# Altium footprint library Connector_PinSocket_1.27mm.PcbLib: 246 footprints (part 6 of 16)
Each footprint in its own frame and in the unit in brackets; x right, y up, seen from the top. Pads: shape width x height; smd on the part's side, far side on the other; paste and mask are expansions set on the pad; w line width, h text height; cw(c..) or ccw(c..) is an arc to the next point about the centre after c.
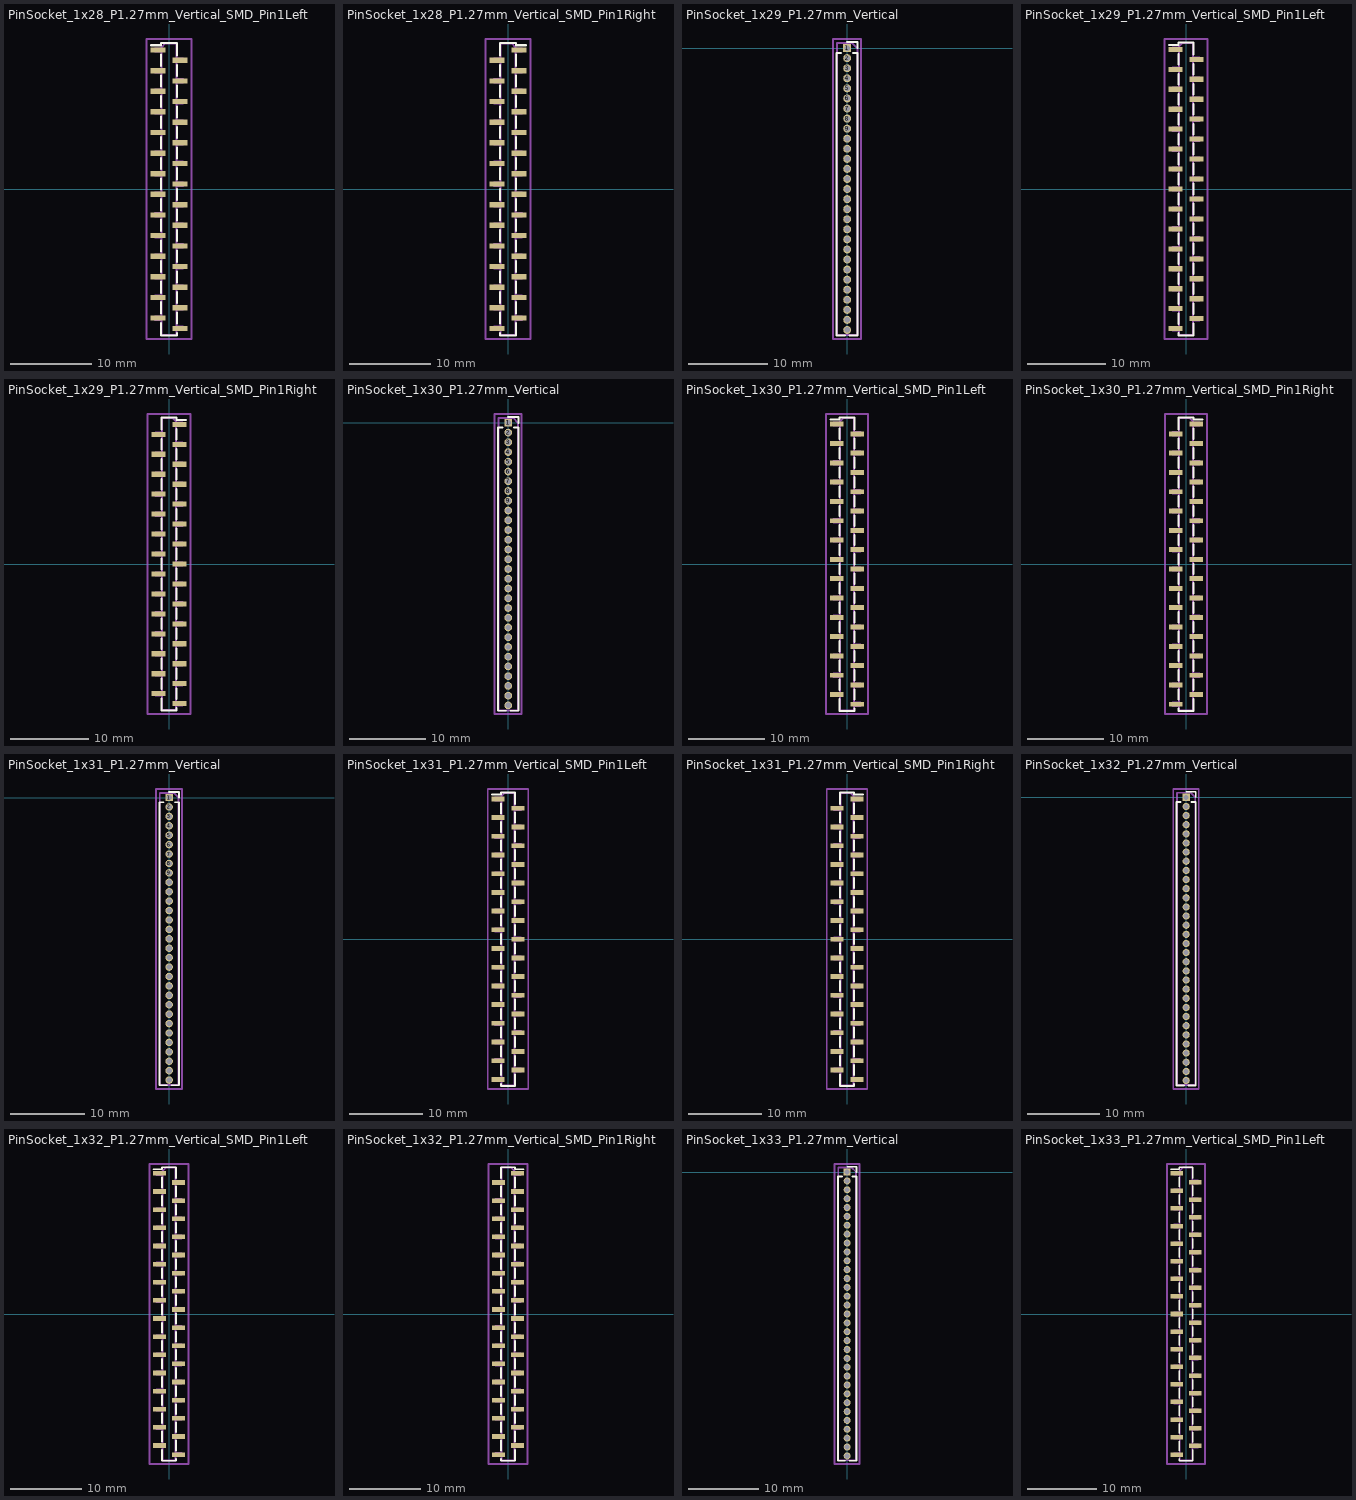
[diagram p5: the footprints below, top view; thin cyan lines are the x and y axes]

## PinSocket_1x28_P1.27mm_Vertical_SMD_Pin1Left [mm]
pads (28):
  rect 1.8x0.65 smd: 1(-1.35,17.145) 2(1.35,15.875) 3(-1.35,14.605) 4(1.35,13.335) 5(-1.35,12.065) 6(1.35,10.795) 7(-1.35,9.525) 8(1.35,8.255) 9(-1.35,6.985) 10(1.35,5.715) 11(-1.35,4.445) 12(1.35,3.175) 13(-1.35,1.905) 14(1.35,0.635) 15(-1.35,-0.635) 16(1.35,-1.905) 17(-1.35,-3.175) 18(1.35,-4.445) 19(-1.35,-5.715) 20(1.35,-6.985) 21(-1.35,-8.255) 22(1.35,-9.525) 23(-1.35,-10.795) 24(1.35,-12.065) 25(-1.35,-13.335) 26(1.35,-14.605) 27(-1.35,-15.875) 28(1.35,-17.145)
F.SilkS:
  lines w0.254: -2.19,17.73 -0.96,17.73 -0.96,18.015 0.96,18.015 0.96,16.46 ; -0.96,-16.46 -0.96,-18.015 0.96,-18.015 0.96,-17.73 ; -0.96,-15.29 -0.96,-13.92 ; -0.96,-12.75 -0.96,-11.38 ; -0.96,-10.21 -0.96,-8.84 ; -0.96,-7.67 -0.96,-6.3 ; -0.96,-5.13 -0.96,-3.76 ; -0.96,-2.59 -0.96,-1.22 ; -0.96,-0.05 -0.96,1.32 ; -0.96,2.49 -0.96,3.86 ; -0.96,5.03 -0.96,6.4 ; -0.96,7.57 -0.96,8.94 ; -0.96,10.11 -0.96,11.48 ; -0.96,12.65 -0.96,14.02 ; -0.96,15.19 -0.96,16.56 ; 0.96,-16.56 0.96,-15.19 ; 0.96,-14.02 0.96,-12.65 ; 0.96,-11.48 0.96,-10.11 ; 0.96,-8.94 0.96,-7.57 ; 0.96,-6.4 0.96,-5.03 ; 0.96,-3.86 0.96,-2.49 ; 0.96,-1.32 0.96,0.05 ; 0.96,1.22 0.96,2.59 ; 0.96,3.76 0.96,5.13 ; 0.96,6.3 0.96,7.67 ; 0.96,8.84 0.96,10.21 ; 0.96,11.38 0.96,12.75 ; 0.96,13.92 0.96,15.29
Top Assembly:
  lines w0.254: -0.9,-16.085 -1.75,-16.085 -1.75,-15.665 -0.9,-15.665 ; -0.9,-13.545 -1.75,-13.545 -1.75,-13.125 -0.9,-13.125 ; -0.9,-11.005 -1.75,-11.005 -1.75,-10.585 -0.9,-10.585 ; -0.9,-8.465 -1.75,-8.465 -1.75,-8.045 -0.9,-8.045 ; -0.9,-5.925 -1.75,-5.925 -1.75,-5.505 -0.9,-5.505 ; -0.9,-3.385 -1.75,-3.385 -1.75,-2.965 -0.9,-2.965 ; -0.9,-0.845 -1.75,-0.845 -1.75,-0.425 -0.9,-0.425 ; -0.9,1.695 -1.75,1.695 -1.75,2.115 -0.9,2.115 ; -0.9,4.235 -1.75,4.235 -1.75,4.655 -0.9,4.655 ; -0.9,6.775 -1.75,6.775 -1.75,7.195 -0.9,7.195 ; -0.9,9.315 -1.75,9.315 -1.75,9.735 -0.9,9.735 ; -0.9,11.855 -1.75,11.855 -1.75,12.275 -0.9,12.275 ; -0.9,14.395 -1.75,14.395 -1.75,14.815 -0.9,14.815 ; -0.9,16.935 -1.75,16.935 -1.75,17.355 -0.9,17.355 ; 0.9,-17.355 1.75,-17.355 1.75,-16.935 0.9,-16.935 ; 0.9,-14.815 1.75,-14.815 1.75,-14.395 0.9,-14.395 ; 0.9,-12.275 1.75,-12.275 1.75,-11.855 0.9,-11.855 ; 0.9,-9.735 1.75,-9.735 1.75,-9.315 0.9,-9.315 ; 0.9,-7.195 1.75,-7.195 1.75,-6.775 0.9,-6.775 ; 0.9,-4.655 1.75,-4.655 1.75,-4.235 0.9,-4.235 ; 0.9,-2.115 1.75,-2.115 1.75,-1.695 0.9,-1.695 ; 0.9,0.425 1.75,0.425 1.75,0.845 0.9,0.845 ; 0.9,2.965 1.75,2.965 1.75,3.385 0.9,3.385 ; 0.9,5.505 1.75,5.505 1.75,5.925 0.9,5.925 ; 0.9,8.045 1.75,8.045 1.75,8.465 0.9,8.465 ; 0.9,10.585 1.75,10.585 1.75,11.005 0.9,11.005 ; 0.9,13.125 1.75,13.125 1.75,13.545 0.9,13.545 ; 0.9,15.665 1.75,15.665 1.75,16.085 0.9,16.085 ; -0.9,-17.955 0.9,-17.955 0.9,17.955 -0.45,17.955 -0.9,17.505 -0.9,-17.955
  text "'.Designator'" at 0.84,-4.047 h1
Top Courtyard:
  lines w0.254: -2.75,-18.45 2.75,-18.45 2.75,18.5 -2.75,18.5 -2.75,-18.45
Top Designator:
  text ".Designator" at -7.618,-0.483 h1.52

## PinSocket_1x28_P1.27mm_Vertical_SMD_Pin1Right [mm]
pads (28):
  rect 1.8x0.65 smd: 1(1.35,17.145) 2(-1.35,15.875) 3(1.35,14.605) 4(-1.35,13.335) 5(1.35,12.065) 6(-1.35,10.795) 7(1.35,9.525) 8(-1.35,8.255) 9(1.35,6.985) 10(-1.35,5.715) 11(1.35,4.445) 12(-1.35,3.175) 13(1.35,1.905) 14(-1.35,0.635) 15(1.35,-0.635) 16(-1.35,-1.905) 17(1.35,-3.175) 18(-1.35,-4.445) 19(1.35,-5.715) 20(-1.35,-6.985) 21(1.35,-8.255) 22(-1.35,-9.525) 23(1.35,-10.795) 24(-1.35,-12.065) 25(1.35,-13.335) 26(-1.35,-14.605) 27(1.35,-15.875) 28(-1.35,-17.145)
F.SilkS:
  lines w0.254: -0.96,-17.73 -0.96,-18.015 0.96,-18.015 0.96,-16.46 ; -0.96,-16.56 -0.96,-15.19 ; -0.96,-14.02 -0.96,-12.65 ; -0.96,-11.48 -0.96,-10.11 ; -0.96,-8.94 -0.96,-7.57 ; -0.96,-6.4 -0.96,-5.03 ; -0.96,-3.86 -0.96,-2.49 ; -0.96,-1.32 -0.96,0.05 ; -0.96,1.22 -0.96,2.59 ; -0.96,3.76 -0.96,5.13 ; -0.96,6.3 -0.96,7.67 ; -0.96,8.84 -0.96,10.21 ; -0.96,11.38 -0.96,12.75 ; -0.96,13.92 -0.96,15.29 ; -0.96,16.46 -0.96,18.015 0.96,18.015 0.96,17.73 2.19,17.73 ; 0.96,-15.29 0.96,-13.92 ; 0.96,-12.75 0.96,-11.38 ; 0.96,-10.21 0.96,-8.84 ; 0.96,-7.67 0.96,-6.3 ; 0.96,-5.13 0.96,-3.76 ; 0.96,-2.59 0.96,-1.22 ; 0.96,-0.05 0.96,1.32 ; 0.96,2.49 0.96,3.86 ; 0.96,5.03 0.96,6.4 ; 0.96,7.57 0.96,8.94 ; 0.96,10.11 0.96,11.48 ; 0.96,12.65 0.96,14.02 ; 0.96,15.19 0.96,16.56
Top Assembly:
  lines w0.254: -0.9,-17.355 -1.75,-17.355 -1.75,-16.935 -0.9,-16.935 ; -0.9,-14.815 -1.75,-14.815 -1.75,-14.395 -0.9,-14.395 ; -0.9,-12.275 -1.75,-12.275 -1.75,-11.855 -0.9,-11.855 ; -0.9,-9.735 -1.75,-9.735 -1.75,-9.315 -0.9,-9.315 ; -0.9,-7.195 -1.75,-7.195 -1.75,-6.775 -0.9,-6.775 ; -0.9,-4.655 -1.75,-4.655 -1.75,-4.235 -0.9,-4.235 ; -0.9,-2.115 -1.75,-2.115 -1.75,-1.695 -0.9,-1.695 ; -0.9,0.425 -1.75,0.425 -1.75,0.845 -0.9,0.845 ; -0.9,2.965 -1.75,2.965 -1.75,3.385 -0.9,3.385 ; -0.9,5.505 -1.75,5.505 -1.75,5.925 -0.9,5.925 ; -0.9,8.045 -1.75,8.045 -1.75,8.465 -0.9,8.465 ; -0.9,10.585 -1.75,10.585 -1.75,11.005 -0.9,11.005 ; -0.9,13.125 -1.75,13.125 -1.75,13.545 -0.9,13.545 ; -0.9,15.665 -1.75,15.665 -1.75,16.085 -0.9,16.085 ; 0.9,-16.085 1.75,-16.085 1.75,-15.665 0.9,-15.665 ; 0.9,-13.545 1.75,-13.545 1.75,-13.125 0.9,-13.125 ; 0.9,-11.005 1.75,-11.005 1.75,-10.585 0.9,-10.585 ; 0.9,-8.465 1.75,-8.465 1.75,-8.045 0.9,-8.045 ; 0.9,-5.925 1.75,-5.925 1.75,-5.505 0.9,-5.505 ; 0.9,-3.385 1.75,-3.385 1.75,-2.965 0.9,-2.965 ; 0.9,-0.845 1.75,-0.845 1.75,-0.425 0.9,-0.425 ; 0.9,1.695 1.75,1.695 1.75,2.115 0.9,2.115 ; 0.9,4.235 1.75,4.235 1.75,4.655 0.9,4.655 ; 0.9,6.775 1.75,6.775 1.75,7.195 0.9,7.195 ; 0.9,9.315 1.75,9.315 1.75,9.735 0.9,9.735 ; 0.9,11.855 1.75,11.855 1.75,12.275 0.9,12.275 ; 0.9,14.395 1.75,14.395 1.75,14.815 0.9,14.815 ; 0.9,16.935 1.75,16.935 1.75,17.355 0.9,17.355 ; -0.9,-17.955 0.9,-17.955 0.9,17.505 0.45,17.955 -0.9,17.955 -0.9,-17.955
  text "'.Designator'" at 0.84,-4.047 h1
Top Courtyard:
  lines w0.254: -2.75,-18.45 2.75,-18.45 2.75,18.5 -2.75,18.5 -2.75,-18.45
Top Designator:
  text ".Designator" at -7.618,-0.483 h1.52

## PinSocket_1x29_P1.27mm_Vertical [mm]
pads (29):
  rect 1x1 hole 0.7: 1(0,0)
  round 1 hole 0.7: 2(0,-1.27) 3(0,-2.54) 4(0,-3.81) 5(0,-5.08) 6(0,-6.35) 7(0,-7.62) 8(0,-8.89) 9(0,-10.16) 10(0,-11.43) 11(0,-12.7) 12(0,-13.97) 13(0,-15.24) 14(0,-16.51) 15(0,-17.78) 16(0,-19.05) 17(0,-20.32) 18(0,-21.59) 19(0,-22.86) 20(0,-24.13) 21(0,-25.4) 22(0,-26.67) 23(0,-27.94) 24(0,-29.21) 25(0,-30.48) 26(0,-31.75) 27(0,-33.02) 28(0,-34.29) 29(0,-35.56)
F.SilkS:
  lines w0.254: -0.76,-0.635 -1.33,-0.635 -1.33,-36.255 -0.308,-36.255 ; 0,0.76 1.33,0.76 1.33,0 ; 0.308,-36.255 1.33,-36.255 1.33,-0.635 0.76,-0.635
Top Assembly:
  lines w0.254: -1.27,-36.195 1.27,-36.195 1.27,0 0.635,0.635 -1.27,0.635 -1.27,-36.195
  text "'.Designator'" at 0.84,-21.827 h1
Top Courtyard:
  lines w0.254: -1.8,-36.7 1.75,-36.7 1.75,1.15 -1.8,1.15 -1.8,-36.7
Top Designator:
  text ".Designator" at -7.643,-18.283 h1.52

## PinSocket_1x29_P1.27mm_Vertical_SMD_Pin1Left [mm]
pads (29):
  rect 1.8x0.65 smd: 1(-1.35,17.78) 2(1.35,16.51) 3(-1.35,15.24) 4(1.35,13.97) 5(-1.35,12.7) 6(1.35,11.43) 7(-1.35,10.16) 8(1.35,8.89) 9(-1.35,7.62) 10(1.35,6.35) 11(-1.35,5.08) 12(1.35,3.81) 13(-1.35,2.54) 14(1.35,1.27) 15(-1.35,0) 16(1.35,-1.27) 17(-1.35,-2.54) 18(1.35,-3.81) 19(-1.35,-5.08) 20(1.35,-6.35) 21(-1.35,-7.62) 22(1.35,-8.89) 23(-1.35,-10.16) 24(1.35,-11.43) 25(-1.35,-12.7) 26(1.35,-13.97) 27(-1.35,-15.24) 28(1.35,-16.51) 29(-1.35,-17.78)
F.SilkS:
  lines w0.254: -2.19,18.365 -0.96,18.365 -0.96,18.65 0.96,18.65 0.96,17.095 ; -0.96,-18.365 -0.96,-18.65 0.96,-18.65 0.96,-17.095 ; -0.96,-17.195 -0.96,-15.825 ; -0.96,-14.655 -0.96,-13.285 ; -0.96,-12.115 -0.96,-10.745 ; -0.96,-9.575 -0.96,-8.205 ; -0.96,-7.035 -0.96,-5.665 ; -0.96,-4.495 -0.96,-3.125 ; -0.96,-1.955 -0.96,-0.585 ; -0.96,0.585 -0.96,1.955 ; -0.96,3.125 -0.96,4.495 ; -0.96,5.665 -0.96,7.035 ; -0.96,8.205 -0.96,9.575 ; -0.96,10.745 -0.96,12.115 ; -0.96,13.285 -0.96,14.655 ; -0.96,15.825 -0.96,17.195 ; 0.96,-15.925 0.96,-14.555 ; 0.96,-13.385 0.96,-12.015 ; 0.96,-10.845 0.96,-9.475 ; 0.96,-8.305 0.96,-6.935 ; 0.96,-5.765 0.96,-4.395 ; 0.96,-3.225 0.96,-1.855 ; 0.96,-0.685 0.96,0.685 ; 0.96,1.855 0.96,3.225 ; 0.96,4.395 0.96,5.765 ; 0.96,6.935 0.96,8.305 ; 0.96,9.475 0.96,10.845 ; 0.96,12.015 0.96,13.385 ; 0.96,14.555 0.96,15.925
Top Assembly:
  lines w0.254: -0.9,-17.99 -1.75,-17.99 -1.75,-17.57 -0.9,-17.57 ; -0.9,-15.45 -1.75,-15.45 -1.75,-15.03 -0.9,-15.03 ; -0.9,-12.91 -1.75,-12.91 -1.75,-12.49 -0.9,-12.49 ; -0.9,-10.37 -1.75,-10.37 -1.75,-9.95 -0.9,-9.95 ; -0.9,-7.83 -1.75,-7.83 -1.75,-7.41 -0.9,-7.41 ; -0.9,-5.29 -1.75,-5.29 -1.75,-4.87 -0.9,-4.87 ; -0.9,-2.75 -1.75,-2.75 -1.75,-2.33 -0.9,-2.33 ; -0.9,-0.21 -1.75,-0.21 -1.75,0.21 -0.9,0.21 ; -0.9,2.33 -1.75,2.33 -1.75,2.75 -0.9,2.75 ; -0.9,4.87 -1.75,4.87 -1.75,5.29 -0.9,5.29 ; -0.9,7.41 -1.75,7.41 -1.75,7.83 -0.9,7.83 ; -0.9,9.95 -1.75,9.95 -1.75,10.37 -0.9,10.37 ; -0.9,12.49 -1.75,12.49 -1.75,12.91 -0.9,12.91 ; -0.9,15.03 -1.75,15.03 -1.75,15.45 -0.9,15.45 ; -0.9,17.57 -1.75,17.57 -1.75,17.99 -0.9,17.99 ; 0.9,-16.72 1.75,-16.72 1.75,-16.3 0.9,-16.3 ; 0.9,-14.18 1.75,-14.18 1.75,-13.76 0.9,-13.76 ; 0.9,-11.64 1.75,-11.64 1.75,-11.22 0.9,-11.22 ; 0.9,-9.1 1.75,-9.1 1.75,-8.68 0.9,-8.68 ; 0.9,-6.56 1.75,-6.56 1.75,-6.14 0.9,-6.14 ; 0.9,-4.02 1.75,-4.02 1.75,-3.6 0.9,-3.6 ; 0.9,-1.48 1.75,-1.48 1.75,-1.06 0.9,-1.06 ; 0.9,1.06 1.75,1.06 1.75,1.48 0.9,1.48 ; 0.9,3.6 1.75,3.6 1.75,4.02 0.9,4.02 ; 0.9,6.14 1.75,6.14 1.75,6.56 0.9,6.56 ; 0.9,8.68 1.75,8.68 1.75,9.1 0.9,9.1 ; 0.9,11.22 1.75,11.22 1.75,11.64 0.9,11.64 ; 0.9,13.76 1.75,13.76 1.75,14.18 0.9,14.18 ; 0.9,16.3 1.75,16.3 1.75,16.72 0.9,16.72 ; -0.9,-18.59 0.9,-18.59 0.9,18.59 -0.45,18.59 -0.9,18.14 -0.9,-18.59
  text "'.Designator'" at 0.84,-4.047 h1
Top Courtyard:
  lines w0.254: -2.75,-19.1 2.75,-19.1 2.75,19.1 -2.75,19.1 -2.75,-19.1
Top Designator:
  text ".Designator" at -7.618,-0.508 h1.52

## PinSocket_1x29_P1.27mm_Vertical_SMD_Pin1Right [mm]
pads (29):
  rect 1.8x0.65 smd: 1(1.35,17.78) 2(-1.35,16.51) 3(1.35,15.24) 4(-1.35,13.97) 5(1.35,12.7) 6(-1.35,11.43) 7(1.35,10.16) 8(-1.35,8.89) 9(1.35,7.62) 10(-1.35,6.35) 11(1.35,5.08) 12(-1.35,3.81) 13(1.35,2.54) 14(-1.35,1.27) 15(1.35,0) 16(-1.35,-1.27) 17(1.35,-2.54) 18(-1.35,-3.81) 19(1.35,-5.08) 20(-1.35,-6.35) 21(1.35,-7.62) 22(-1.35,-8.89) 23(1.35,-10.16) 24(-1.35,-11.43) 25(1.35,-12.7) 26(-1.35,-13.97) 27(1.35,-15.24) 28(-1.35,-16.51) 29(1.35,-17.78)
F.SilkS:
  lines w0.254: -0.96,-17.095 -0.96,-18.65 0.96,-18.65 0.96,-18.365 ; -0.96,-15.925 -0.96,-14.555 ; -0.96,-13.385 -0.96,-12.015 ; -0.96,-10.845 -0.96,-9.475 ; -0.96,-8.305 -0.96,-6.935 ; -0.96,-5.765 -0.96,-4.395 ; -0.96,-3.225 -0.96,-1.855 ; -0.96,-0.685 -0.96,0.685 ; -0.96,1.855 -0.96,3.225 ; -0.96,4.395 -0.96,5.765 ; -0.96,6.935 -0.96,8.305 ; -0.96,9.475 -0.96,10.845 ; -0.96,12.015 -0.96,13.385 ; -0.96,14.555 -0.96,15.925 ; -0.96,17.095 -0.96,18.65 0.96,18.65 0.96,18.365 2.19,18.365 ; 0.96,-17.195 0.96,-15.825 ; 0.96,-14.655 0.96,-13.285 ; 0.96,-12.115 0.96,-10.745 ; 0.96,-9.575 0.96,-8.205 ; 0.96,-7.035 0.96,-5.665 ; 0.96,-4.495 0.96,-3.125 ; 0.96,-1.955 0.96,-0.585 ; 0.96,0.585 0.96,1.955 ; 0.96,3.125 0.96,4.495 ; 0.96,5.665 0.96,7.035 ; 0.96,8.205 0.96,9.575 ; 0.96,10.745 0.96,12.115 ; 0.96,13.285 0.96,14.655 ; 0.96,15.825 0.96,17.195
Top Assembly:
  lines w0.254: -0.9,-16.72 -1.75,-16.72 -1.75,-16.3 -0.9,-16.3 ; -0.9,-14.18 -1.75,-14.18 -1.75,-13.76 -0.9,-13.76 ; -0.9,-11.64 -1.75,-11.64 -1.75,-11.22 -0.9,-11.22 ; -0.9,-9.1 -1.75,-9.1 -1.75,-8.68 -0.9,-8.68 ; -0.9,-6.56 -1.75,-6.56 -1.75,-6.14 -0.9,-6.14 ; -0.9,-4.02 -1.75,-4.02 -1.75,-3.6 -0.9,-3.6 ; -0.9,-1.48 -1.75,-1.48 -1.75,-1.06 -0.9,-1.06 ; -0.9,1.06 -1.75,1.06 -1.75,1.48 -0.9,1.48 ; -0.9,3.6 -1.75,3.6 -1.75,4.02 -0.9,4.02 ; -0.9,6.14 -1.75,6.14 -1.75,6.56 -0.9,6.56 ; -0.9,8.68 -1.75,8.68 -1.75,9.1 -0.9,9.1 ; -0.9,11.22 -1.75,11.22 -1.75,11.64 -0.9,11.64 ; -0.9,13.76 -1.75,13.76 -1.75,14.18 -0.9,14.18 ; -0.9,16.3 -1.75,16.3 -1.75,16.72 -0.9,16.72 ; 0.9,-17.99 1.75,-17.99 1.75,-17.57 0.9,-17.57 ; 0.9,-15.45 1.75,-15.45 1.75,-15.03 0.9,-15.03 ; 0.9,-12.91 1.75,-12.91 1.75,-12.49 0.9,-12.49 ; 0.9,-10.37 1.75,-10.37 1.75,-9.95 0.9,-9.95 ; 0.9,-7.83 1.75,-7.83 1.75,-7.41 0.9,-7.41 ; 0.9,-5.29 1.75,-5.29 1.75,-4.87 0.9,-4.87 ; 0.9,-2.75 1.75,-2.75 1.75,-2.33 0.9,-2.33 ; 0.9,-0.21 1.75,-0.21 1.75,0.21 0.9,0.21 ; 0.9,2.33 1.75,2.33 1.75,2.75 0.9,2.75 ; 0.9,4.87 1.75,4.87 1.75,5.29 0.9,5.29 ; 0.9,7.41 1.75,7.41 1.75,7.83 0.9,7.83 ; 0.9,9.95 1.75,9.95 1.75,10.37 0.9,10.37 ; 0.9,12.49 1.75,12.49 1.75,12.91 0.9,12.91 ; 0.9,15.03 1.75,15.03 1.75,15.45 0.9,15.45 ; 0.9,17.57 1.75,17.57 1.75,17.99 0.9,17.99 ; -0.9,-18.59 0.9,-18.59 0.9,18.14 0.45,18.59 -0.9,18.59 -0.9,-18.59
  text "'.Designator'" at 0.84,-4.047 h1
Top Courtyard:
  lines w0.254: -2.75,-19.1 2.75,-19.1 2.75,19.1 -2.75,19.1 -2.75,-19.1
Top Designator:
  text ".Designator" at -7.618,-0.508 h1.52

## PinSocket_1x30_P1.27mm_Vertical [mm]
pads (30):
  rect 1x1 hole 0.7: 1(0,0)
  round 1 hole 0.7: 2(0,-1.27) 3(0,-2.54) 4(0,-3.81) 5(0,-5.08) 6(0,-6.35) 7(0,-7.62) 8(0,-8.89) 9(0,-10.16) 10(0,-11.43) 11(0,-12.7) 12(0,-13.97) 13(0,-15.24) 14(0,-16.51) 15(0,-17.78) 16(0,-19.05) 17(0,-20.32) 18(0,-21.59) 19(0,-22.86) 20(0,-24.13) 21(0,-25.4) 22(0,-26.67) 23(0,-27.94) 24(0,-29.21) 25(0,-30.48) 26(0,-31.75) 27(0,-33.02) 28(0,-34.29) 29(0,-35.56) 30(0,-36.83)
F.SilkS:
  lines w0.254: -0.76,-0.635 -1.33,-0.635 -1.33,-37.525 -0.308,-37.525 ; 0,0.76 1.33,0.76 1.33,0 ; 0.308,-37.525 1.33,-37.525 1.33,-0.635 0.76,-0.635
Top Assembly:
  lines w0.254: -1.27,-37.465 1.27,-37.465 1.27,0 0.635,0.635 -1.27,0.635 -1.27,-37.465
  text "'.Designator'" at 0.84,-22.462 h1
Top Courtyard:
  lines w0.254: -1.8,-37.95 1.75,-37.95 1.75,1.15 -1.8,1.15 -1.8,-37.95
Top Designator:
  text ".Designator" at -7.643,-18.908 h1.52

## PinSocket_1x30_P1.27mm_Vertical_SMD_Pin1Left [mm]
pads (30):
  rect 1.8x0.65 smd: 1(-1.35,18.415) 2(1.35,17.145) 3(-1.35,15.875) 4(1.35,14.605) 5(-1.35,13.335) 6(1.35,12.065) 7(-1.35,10.795) 8(1.35,9.525) 9(-1.35,8.255) 10(1.35,6.985) 11(-1.35,5.715) 12(1.35,4.445) 13(-1.35,3.175) 14(1.35,1.905) 15(-1.35,0.635) 16(1.35,-0.635) 17(-1.35,-1.905) 18(1.35,-3.175) 19(-1.35,-4.445) 20(1.35,-5.715) 21(-1.35,-6.985) 22(1.35,-8.255) 23(-1.35,-9.525) 24(1.35,-10.795) 25(-1.35,-12.065) 26(1.35,-13.335) 27(-1.35,-14.605) 28(1.35,-15.875) 29(-1.35,-17.145) 30(1.35,-18.415)
F.SilkS:
  lines w0.254: -2.19,19 -0.96,19 -0.96,19.285 0.96,19.285 0.96,17.73 ; -0.96,-17.73 -0.96,-19.285 0.96,-19.285 0.96,-19 ; -0.96,-16.56 -0.96,-15.19 ; -0.96,-14.02 -0.96,-12.65 ; -0.96,-11.48 -0.96,-10.11 ; -0.96,-8.94 -0.96,-7.57 ; -0.96,-6.4 -0.96,-5.03 ; -0.96,-3.86 -0.96,-2.49 ; -0.96,-1.32 -0.96,0.05 ; -0.96,1.22 -0.96,2.59 ; -0.96,3.76 -0.96,5.13 ; -0.96,6.3 -0.96,7.67 ; -0.96,8.84 -0.96,10.21 ; -0.96,11.38 -0.96,12.75 ; -0.96,13.92 -0.96,15.29 ; -0.96,16.46 -0.96,17.83 ; 0.96,-17.83 0.96,-16.46 ; 0.96,-15.29 0.96,-13.92 ; 0.96,-12.75 0.96,-11.38 ; 0.96,-10.21 0.96,-8.84 ; 0.96,-7.67 0.96,-6.3 ; 0.96,-5.13 0.96,-3.76 ; 0.96,-2.59 0.96,-1.22 ; 0.96,-0.05 0.96,1.32 ; 0.96,2.49 0.96,3.86 ; 0.96,5.03 0.96,6.4 ; 0.96,7.57 0.96,8.94 ; 0.96,10.11 0.96,11.48 ; 0.96,12.65 0.96,14.02 ; 0.96,15.19 0.96,16.56
Top Assembly:
  lines w0.254: -0.9,-17.355 -1.75,-17.355 -1.75,-16.935 -0.9,-16.935 ; -0.9,-14.815 -1.75,-14.815 -1.75,-14.395 -0.9,-14.395 ; -0.9,-12.275 -1.75,-12.275 -1.75,-11.855 -0.9,-11.855 ; -0.9,-9.735 -1.75,-9.735 -1.75,-9.315 -0.9,-9.315 ; -0.9,-7.195 -1.75,-7.195 -1.75,-6.775 -0.9,-6.775 ; -0.9,-4.655 -1.75,-4.655 -1.75,-4.235 -0.9,-4.235 ; -0.9,-2.115 -1.75,-2.115 -1.75,-1.695 -0.9,-1.695 ; -0.9,0.425 -1.75,0.425 -1.75,0.845 -0.9,0.845 ; -0.9,2.965 -1.75,2.965 -1.75,3.385 -0.9,3.385 ; -0.9,5.505 -1.75,5.505 -1.75,5.925 -0.9,5.925 ; -0.9,8.045 -1.75,8.045 -1.75,8.465 -0.9,8.465 ; -0.9,10.585 -1.75,10.585 -1.75,11.005 -0.9,11.005 ; -0.9,13.125 -1.75,13.125 -1.75,13.545 -0.9,13.545 ; -0.9,15.665 -1.75,15.665 -1.75,16.085 -0.9,16.085 ; -0.9,18.205 -1.75,18.205 -1.75,18.625 -0.9,18.625 ; 0.9,-18.625 1.75,-18.625 1.75,-18.205 0.9,-18.205 ; 0.9,-16.085 1.75,-16.085 1.75,-15.665 0.9,-15.665 ; 0.9,-13.545 1.75,-13.545 1.75,-13.125 0.9,-13.125 ; 0.9,-11.005 1.75,-11.005 1.75,-10.585 0.9,-10.585 ; 0.9,-8.465 1.75,-8.465 1.75,-8.045 0.9,-8.045 ; 0.9,-5.925 1.75,-5.925 1.75,-5.505 0.9,-5.505 ; 0.9,-3.385 1.75,-3.385 1.75,-2.965 0.9,-2.965 ; 0.9,-0.845 1.75,-0.845 1.75,-0.425 0.9,-0.425 ; 0.9,1.695 1.75,1.695 1.75,2.115 0.9,2.115 ; 0.9,4.235 1.75,4.235 1.75,4.655 0.9,4.655 ; 0.9,6.775 1.75,6.775 1.75,7.195 0.9,7.195 ; 0.9,9.315 1.75,9.315 1.75,9.735 0.9,9.735 ; 0.9,11.855 1.75,11.855 1.75,12.275 0.9,12.275 ; 0.9,14.395 1.75,14.395 1.75,14.815 0.9,14.815 ; 0.9,16.935 1.75,16.935 1.75,17.355 0.9,17.355 ; -0.9,-19.225 0.9,-19.225 0.9,19.225 -0.45,19.225 -0.9,18.775 -0.9,-19.225
  text "'.Designator'" at 0.84,-4.047 h1
Top Courtyard:
  lines w0.254: -2.75,-19.7 2.75,-19.7 2.75,19.75 -2.75,19.75 -2.75,-19.7
Top Designator:
  text ".Designator" at -7.618,-0.483 h1.52

## PinSocket_1x30_P1.27mm_Vertical_SMD_Pin1Right [mm]
pads (30):
  rect 1.8x0.65 smd: 1(1.35,18.415) 2(-1.35,17.145) 3(1.35,15.875) 4(-1.35,14.605) 5(1.35,13.335) 6(-1.35,12.065) 7(1.35,10.795) 8(-1.35,9.525) 9(1.35,8.255) 10(-1.35,6.985) 11(1.35,5.715) 12(-1.35,4.445) 13(1.35,3.175) 14(-1.35,1.905) 15(1.35,0.635) 16(-1.35,-0.635) 17(1.35,-1.905) 18(-1.35,-3.175) 19(1.35,-4.445) 20(-1.35,-5.715) 21(1.35,-6.985) 22(-1.35,-8.255) 23(1.35,-9.525) 24(-1.35,-10.795) 25(1.35,-12.065) 26(-1.35,-13.335) 27(1.35,-14.605) 28(-1.35,-15.875) 29(1.35,-17.145) 30(-1.35,-18.415)
F.SilkS:
  lines w0.254: -0.96,-19 -0.96,-19.285 0.96,-19.285 0.96,-17.73 ; -0.96,-17.83 -0.96,-16.46 ; -0.96,-15.29 -0.96,-13.92 ; -0.96,-12.75 -0.96,-11.38 ; -0.96,-10.21 -0.96,-8.84 ; -0.96,-7.67 -0.96,-6.3 ; -0.96,-5.13 -0.96,-3.76 ; -0.96,-2.59 -0.96,-1.22 ; -0.96,-0.05 -0.96,1.32 ; -0.96,2.49 -0.96,3.86 ; -0.96,5.03 -0.96,6.4 ; -0.96,7.57 -0.96,8.94 ; -0.96,10.11 -0.96,11.48 ; -0.96,12.65 -0.96,14.02 ; -0.96,15.19 -0.96,16.56 ; -0.96,17.73 -0.96,19.285 0.96,19.285 0.96,19 2.19,19 ; 0.96,-16.56 0.96,-15.19 ; 0.96,-14.02 0.96,-12.65 ; 0.96,-11.48 0.96,-10.11 ; 0.96,-8.94 0.96,-7.57 ; 0.96,-6.4 0.96,-5.03 ; 0.96,-3.86 0.96,-2.49 ; 0.96,-1.32 0.96,0.05 ; 0.96,1.22 0.96,2.59 ; 0.96,3.76 0.96,5.13 ; 0.96,6.3 0.96,7.67 ; 0.96,8.84 0.96,10.21 ; 0.96,11.38 0.96,12.75 ; 0.96,13.92 0.96,15.29 ; 0.96,16.46 0.96,17.83
Top Assembly:
  lines w0.254: -0.9,-18.625 -1.75,-18.625 -1.75,-18.205 -0.9,-18.205 ; -0.9,-16.085 -1.75,-16.085 -1.75,-15.665 -0.9,-15.665 ; -0.9,-13.545 -1.75,-13.545 -1.75,-13.125 -0.9,-13.125 ; -0.9,-11.005 -1.75,-11.005 -1.75,-10.585 -0.9,-10.585 ; -0.9,-8.465 -1.75,-8.465 -1.75,-8.045 -0.9,-8.045 ; -0.9,-5.925 -1.75,-5.925 -1.75,-5.505 -0.9,-5.505 ; -0.9,-3.385 -1.75,-3.385 -1.75,-2.965 -0.9,-2.965 ; -0.9,-0.845 -1.75,-0.845 -1.75,-0.425 -0.9,-0.425 ; -0.9,1.695 -1.75,1.695 -1.75,2.115 -0.9,2.115 ; -0.9,4.235 -1.75,4.235 -1.75,4.655 -0.9,4.655 ; -0.9,6.775 -1.75,6.775 -1.75,7.195 -0.9,7.195 ; -0.9,9.315 -1.75,9.315 -1.75,9.735 -0.9,9.735 ; -0.9,11.855 -1.75,11.855 -1.75,12.275 -0.9,12.275 ; -0.9,14.395 -1.75,14.395 -1.75,14.815 -0.9,14.815 ; -0.9,16.935 -1.75,16.935 -1.75,17.355 -0.9,17.355 ; 0.9,-17.355 1.75,-17.355 1.75,-16.935 0.9,-16.935 ; 0.9,-14.815 1.75,-14.815 1.75,-14.395 0.9,-14.395 ; 0.9,-12.275 1.75,-12.275 1.75,-11.855 0.9,-11.855 ; 0.9,-9.735 1.75,-9.735 1.75,-9.315 0.9,-9.315 ; 0.9,-7.195 1.75,-7.195 1.75,-6.775 0.9,-6.775 ; 0.9,-4.655 1.75,-4.655 1.75,-4.235 0.9,-4.235 ; 0.9,-2.115 1.75,-2.115 1.75,-1.695 0.9,-1.695 ; 0.9,0.425 1.75,0.425 1.75,0.845 0.9,0.845 ; 0.9,2.965 1.75,2.965 1.75,3.385 0.9,3.385 ; 0.9,5.505 1.75,5.505 1.75,5.925 0.9,5.925 ; 0.9,8.045 1.75,8.045 1.75,8.465 0.9,8.465 ; 0.9,10.585 1.75,10.585 1.75,11.005 0.9,11.005 ; 0.9,13.125 1.75,13.125 1.75,13.545 0.9,13.545 ; 0.9,15.665 1.75,15.665 1.75,16.085 0.9,16.085 ; 0.9,18.205 1.75,18.205 1.75,18.625 0.9,18.625 ; -0.9,-19.225 0.9,-19.225 0.9,18.775 0.45,19.225 -0.9,19.225 -0.9,-19.225
  text "'.Designator'" at 0.84,-4.047 h1
Top Courtyard:
  lines w0.254: -2.75,-19.7 2.75,-19.7 2.75,19.75 -2.75,19.75 -2.75,-19.7
Top Designator:
  text ".Designator" at -7.618,-0.483 h1.52

## PinSocket_1x31_P1.27mm_Vertical [mm]
pads (31):
  rect 1x1 hole 0.7: 1(0,0)
  round 1 hole 0.7: 2(0,-1.27) 3(0,-2.54) 4(0,-3.81) 5(0,-5.08) 6(0,-6.35) 7(0,-7.62) 8(0,-8.89) 9(0,-10.16) 10(0,-11.43) 11(0,-12.7) 12(0,-13.97) 13(0,-15.24) 14(0,-16.51) 15(0,-17.78) 16(0,-19.05) 17(0,-20.32) 18(0,-21.59) 19(0,-22.86) 20(0,-24.13) 21(0,-25.4) 22(0,-26.67) 23(0,-27.94) 24(0,-29.21) 25(0,-30.48) 26(0,-31.75) 27(0,-33.02) 28(0,-34.29) 29(0,-35.56) 30(0,-36.83) 31(0,-38.1)
F.SilkS:
  lines w0.254: -0.76,-0.635 -1.33,-0.635 -1.33,-38.795 -0.308,-38.795 ; 0,0.76 1.33,0.76 1.33,0 ; 0.308,-38.795 1.33,-38.795 1.33,-0.635 0.76,-0.635
Top Assembly:
  lines w0.254: -1.27,-38.735 1.27,-38.735 1.27,0 0.635,0.635 -1.27,0.635 -1.27,-38.735
  text "'.Designator'" at 0.84,-23.097 h1
Top Courtyard:
  lines w0.254: -1.8,-39.3 1.75,-39.3 1.75,1.15 -1.8,1.15 -1.8,-39.3
Top Designator:
  text ".Designator" at -7.643,-19.583 h1.52

## PinSocket_1x31_P1.27mm_Vertical_SMD_Pin1Left [mm]
pads (31):
  rect 1.8x0.65 smd: 1(-1.35,19.05) 2(1.35,17.78) 3(-1.35,16.51) 4(1.35,15.24) 5(-1.35,13.97) 6(1.35,12.7) 7(-1.35,11.43) 8(1.35,10.16) 9(-1.35,8.89) 10(1.35,7.62) 11(-1.35,6.35) 12(1.35,5.08) 13(-1.35,3.81) 14(1.35,2.54) 15(-1.35,1.27) 16(1.35,0) 17(-1.35,-1.27) 18(1.35,-2.54) 19(-1.35,-3.81) 20(1.35,-5.08) 21(-1.35,-6.35) 22(1.35,-7.62) 23(-1.35,-8.89) 24(1.35,-10.16) 25(-1.35,-11.43) 26(1.35,-12.7) 27(-1.35,-13.97) 28(1.35,-15.24) 29(-1.35,-16.51) 30(1.35,-17.78) 31(-1.35,-19.05)
F.SilkS:
  lines w0.254: -2.19,19.635 -0.96,19.635 -0.96,19.92 0.96,19.92 0.96,18.365 ; -0.96,-19.635 -0.96,-19.92 0.96,-19.92 0.96,-18.365 ; -0.96,-18.465 -0.96,-17.095 ; -0.96,-15.925 -0.96,-14.555 ; -0.96,-13.385 -0.96,-12.015 ; -0.96,-10.845 -0.96,-9.475 ; -0.96,-8.305 -0.96,-6.935 ; -0.96,-5.765 -0.96,-4.395 ; -0.96,-3.225 -0.96,-1.855 ; -0.96,-0.685 -0.96,0.685 ; -0.96,1.855 -0.96,3.225 ; -0.96,4.395 -0.96,5.765 ; -0.96,6.935 -0.96,8.305 ; -0.96,9.475 -0.96,10.845 ; -0.96,12.015 -0.96,13.385 ; -0.96,14.555 -0.96,15.925 ; -0.96,17.095 -0.96,18.465 ; 0.96,-17.195 0.96,-15.825 ; 0.96,-14.655 0.96,-13.285 ; 0.96,-12.115 0.96,-10.745 ; 0.96,-9.575 0.96,-8.205 ; 0.96,-7.035 0.96,-5.665 ; 0.96,-4.495 0.96,-3.125 ; 0.96,-1.955 0.96,-0.585 ; 0.96,0.585 0.96,1.955 ; 0.96,3.125 0.96,4.495 ; 0.96,5.665 0.96,7.035 ; 0.96,8.205 0.96,9.575 ; 0.96,10.745 0.96,12.115 ; 0.96,13.285 0.96,14.655 ; 0.96,15.825 0.96,17.195
Top Assembly:
  lines w0.254: -0.9,-19.26 -1.75,-19.26 -1.75,-18.84 -0.9,-18.84 ; -0.9,-16.72 -1.75,-16.72 -1.75,-16.3 -0.9,-16.3 ; -0.9,-14.18 -1.75,-14.18 -1.75,-13.76 -0.9,-13.76 ; -0.9,-11.64 -1.75,-11.64 -1.75,-11.22 -0.9,-11.22 ; -0.9,-9.1 -1.75,-9.1 -1.75,-8.68 -0.9,-8.68 ; -0.9,-6.56 -1.75,-6.56 -1.75,-6.14 -0.9,-6.14 ; -0.9,-4.02 -1.75,-4.02 -1.75,-3.6 -0.9,-3.6 ; -0.9,-1.48 -1.75,-1.48 -1.75,-1.06 -0.9,-1.06 ; -0.9,1.06 -1.75,1.06 -1.75,1.48 -0.9,1.48 ; -0.9,3.6 -1.75,3.6 -1.75,4.02 -0.9,4.02 ; -0.9,6.14 -1.75,6.14 -1.75,6.56 -0.9,6.56 ; -0.9,8.68 -1.75,8.68 -1.75,9.1 -0.9,9.1 ; -0.9,11.22 -1.75,11.22 -1.75,11.64 -0.9,11.64 ; -0.9,13.76 -1.75,13.76 -1.75,14.18 -0.9,14.18 ; -0.9,16.3 -1.75,16.3 -1.75,16.72 -0.9,16.72 ; -0.9,18.84 -1.75,18.84 -1.75,19.26 -0.9,19.26 ; 0.9,-17.99 1.75,-17.99 1.75,-17.57 0.9,-17.57 ; 0.9,-15.45 1.75,-15.45 1.75,-15.03 0.9,-15.03 ; 0.9,-12.91 1.75,-12.91 1.75,-12.49 0.9,-12.49 ; 0.9,-10.37 1.75,-10.37 1.75,-9.95 0.9,-9.95 ; 0.9,-7.83 1.75,-7.83 1.75,-7.41 0.9,-7.41 ; 0.9,-5.29 1.75,-5.29 1.75,-4.87 0.9,-4.87 ; 0.9,-2.75 1.75,-2.75 1.75,-2.33 0.9,-2.33 ; 0.9,-0.21 1.75,-0.21 1.75,0.21 0.9,0.21 ; 0.9,2.33 1.75,2.33 1.75,2.75 0.9,2.75 ; 0.9,4.87 1.75,4.87 1.75,5.29 0.9,5.29 ; 0.9,7.41 1.75,7.41 1.75,7.83 0.9,7.83 ; 0.9,9.95 1.75,9.95 1.75,10.37 0.9,10.37 ; 0.9,12.49 1.75,12.49 1.75,12.91 0.9,12.91 ; 0.9,15.03 1.75,15.03 1.75,15.45 0.9,15.45 ; 0.9,17.57 1.75,17.57 1.75,17.99 0.9,17.99 ; -0.9,-19.86 0.9,-19.86 0.9,19.86 -0.45,19.86 -0.9,19.41 -0.9,-19.86
  text "'.Designator'" at 0.84,-4.047 h1
Top Courtyard:
  lines w0.254: -2.75,-20.35 2.75,-20.35 2.75,20.4 -2.75,20.4 -2.75,-20.35
Top Designator:
  text ".Designator" at -7.618,-0.483 h1.52

## PinSocket_1x31_P1.27mm_Vertical_SMD_Pin1Right [mm]
pads (31):
  rect 1.8x0.65 smd: 1(1.35,19.05) 2(-1.35,17.78) 3(1.35,16.51) 4(-1.35,15.24) 5(1.35,13.97) 6(-1.35,12.7) 7(1.35,11.43) 8(-1.35,10.16) 9(1.35,8.89) 10(-1.35,7.62) 11(1.35,6.35) 12(-1.35,5.08) 13(1.35,3.81) 14(-1.35,2.54) 15(1.35,1.27) 16(-1.35,0) 17(1.35,-1.27) 18(-1.35,-2.54) 19(1.35,-3.81) 20(-1.35,-5.08) 21(1.35,-6.35) 22(-1.35,-7.62) 23(1.35,-8.89) 24(-1.35,-10.16) 25(1.35,-11.43) 26(-1.35,-12.7) 27(1.35,-13.97) 28(-1.35,-15.24) 29(1.35,-16.51) 30(-1.35,-17.78) 31(1.35,-19.05)
F.SilkS:
  lines w0.254: -0.96,-18.365 -0.96,-19.92 0.96,-19.92 0.96,-19.635 ; -0.96,-17.195 -0.96,-15.825 ; -0.96,-14.655 -0.96,-13.285 ; -0.96,-12.115 -0.96,-10.745 ; -0.96,-9.575 -0.96,-8.205 ; -0.96,-7.035 -0.96,-5.665 ; -0.96,-4.495 -0.96,-3.125 ; -0.96,-1.955 -0.96,-0.585 ; -0.96,0.585 -0.96,1.955 ; -0.96,3.125 -0.96,4.495 ; -0.96,5.665 -0.96,7.035 ; -0.96,8.205 -0.96,9.575 ; -0.96,10.745 -0.96,12.115 ; -0.96,13.285 -0.96,14.655 ; -0.96,15.825 -0.96,17.195 ; -0.96,18.365 -0.96,19.92 0.96,19.92 0.96,19.635 2.19,19.635 ; 0.96,-18.465 0.96,-17.095 ; 0.96,-15.925 0.96,-14.555 ; 0.96,-13.385 0.96,-12.015 ; 0.96,-10.845 0.96,-9.475 ; 0.96,-8.305 0.96,-6.935 ; 0.96,-5.765 0.96,-4.395 ; 0.96,-3.225 0.96,-1.855 ; 0.96,-0.685 0.96,0.685 ; 0.96,1.855 0.96,3.225 ; 0.96,4.395 0.96,5.765 ; 0.96,6.935 0.96,8.305 ; 0.96,9.475 0.96,10.845 ; 0.96,12.015 0.96,13.385 ; 0.96,14.555 0.96,15.925 ; 0.96,17.095 0.96,18.465
Top Assembly:
  lines w0.254: -0.9,-17.99 -1.75,-17.99 -1.75,-17.57 -0.9,-17.57 ; -0.9,-15.45 -1.75,-15.45 -1.75,-15.03 -0.9,-15.03 ; -0.9,-12.91 -1.75,-12.91 -1.75,-12.49 -0.9,-12.49 ; -0.9,-10.37 -1.75,-10.37 -1.75,-9.95 -0.9,-9.95 ; -0.9,-7.83 -1.75,-7.83 -1.75,-7.41 -0.9,-7.41 ; -0.9,-5.29 -1.75,-5.29 -1.75,-4.87 -0.9,-4.87 ; -0.9,-2.75 -1.75,-2.75 -1.75,-2.33 -0.9,-2.33 ; -0.9,-0.21 -1.75,-0.21 -1.75,0.21 -0.9,0.21 ; -0.9,2.33 -1.75,2.33 -1.75,2.75 -0.9,2.75 ; -0.9,4.87 -1.75,4.87 -1.75,5.29 -0.9,5.29 ; -0.9,7.41 -1.75,7.41 -1.75,7.83 -0.9,7.83 ; -0.9,9.95 -1.75,9.95 -1.75,10.37 -0.9,10.37 ; -0.9,12.49 -1.75,12.49 -1.75,12.91 -0.9,12.91 ; -0.9,15.03 -1.75,15.03 -1.75,15.45 -0.9,15.45 ; -0.9,17.57 -1.75,17.57 -1.75,17.99 -0.9,17.99 ; 0.9,-19.26 1.75,-19.26 1.75,-18.84 0.9,-18.84 ; 0.9,-16.72 1.75,-16.72 1.75,-16.3 0.9,-16.3 ; 0.9,-14.18 1.75,-14.18 1.75,-13.76 0.9,-13.76 ; 0.9,-11.64 1.75,-11.64 1.75,-11.22 0.9,-11.22 ; 0.9,-9.1 1.75,-9.1 1.75,-8.68 0.9,-8.68 ; 0.9,-6.56 1.75,-6.56 1.75,-6.14 0.9,-6.14 ; 0.9,-4.02 1.75,-4.02 1.75,-3.6 0.9,-3.6 ; 0.9,-1.48 1.75,-1.48 1.75,-1.06 0.9,-1.06 ; 0.9,1.06 1.75,1.06 1.75,1.48 0.9,1.48 ; 0.9,3.6 1.75,3.6 1.75,4.02 0.9,4.02 ; 0.9,6.14 1.75,6.14 1.75,6.56 0.9,6.56 ; 0.9,8.68 1.75,8.68 1.75,9.1 0.9,9.1 ; 0.9,11.22 1.75,11.22 1.75,11.64 0.9,11.64 ; 0.9,13.76 1.75,13.76 1.75,14.18 0.9,14.18 ; 0.9,16.3 1.75,16.3 1.75,16.72 0.9,16.72 ; 0.9,18.84 1.75,18.84 1.75,19.26 0.9,19.26 ; -0.9,-19.86 0.9,-19.86 0.9,19.41 0.45,19.86 -0.9,19.86 -0.9,-19.86
  text "'.Designator'" at 0.84,-4.047 h1
Top Courtyard:
  lines w0.254: -2.75,-20.35 2.75,-20.35 2.75,20.4 -2.75,20.4 -2.75,-20.35
Top Designator:
  text ".Designator" at -7.618,-0.483 h1.52

## PinSocket_1x32_P1.27mm_Vertical [mm]
pads (32):
  rect 1x1 hole 0.7: 1(0,0)
  round 1 hole 0.7: 2(0,-1.27) 3(0,-2.54) 4(0,-3.81) 5(0,-5.08) 6(0,-6.35) 7(0,-7.62) 8(0,-8.89) 9(0,-10.16) 10(0,-11.43) 11(0,-12.7) 12(0,-13.97) 13(0,-15.24) 14(0,-16.51) 15(0,-17.78) 16(0,-19.05) 17(0,-20.32) 18(0,-21.59) 19(0,-22.86) 20(0,-24.13) 21(0,-25.4) 22(0,-26.67) 23(0,-27.94) 24(0,-29.21) 25(0,-30.48) 26(0,-31.75) 27(0,-33.02) 28(0,-34.29) 29(0,-35.56) 30(0,-36.83) 31(0,-38.1) 32(0,-39.37)
F.SilkS:
  lines w0.254: -0.76,-0.635 -1.33,-0.635 -1.33,-40.065 -0.308,-40.065 ; 0,0.76 1.33,0.76 1.33,0 ; 0.308,-40.065 1.33,-40.065 1.33,-0.635 0.76,-0.635
Top Assembly:
  lines w0.254: -1.27,-40.005 1.27,-40.005 1.27,0 0.635,0.635 -1.27,0.635 -1.27,-40.005
  text "'.Designator'" at 0.84,-23.732 h1
Top Courtyard:
  lines w0.254: -1.8,-40.55 1.75,-40.55 1.75,1.15 -1.8,1.15 -1.8,-40.55
Top Designator:
  text ".Designator" at -7.643,-20.208 h1.52

## PinSocket_1x32_P1.27mm_Vertical_SMD_Pin1Left [mm]
pads (32):
  rect 1.8x0.65 smd: 1(-1.35,19.685) 2(1.35,18.415) 3(-1.35,17.145) 4(1.35,15.875) 5(-1.35,14.605) 6(1.35,13.335) 7(-1.35,12.065) 8(1.35,10.795) 9(-1.35,9.525) 10(1.35,8.255) 11(-1.35,6.985) 12(1.35,5.715) 13(-1.35,4.445) 14(1.35,3.175) 15(-1.35,1.905) 16(1.35,0.635) 17(-1.35,-0.635) 18(1.35,-1.905) 19(-1.35,-3.175) 20(1.35,-4.445) 21(-1.35,-5.715) 22(1.35,-6.985) 23(-1.35,-8.255) 24(1.35,-9.525) 25(-1.35,-10.795) 26(1.35,-12.065) 27(-1.35,-13.335) 28(1.35,-14.605) 29(-1.35,-15.875) 30(1.35,-17.145) 31(-1.35,-18.415) 32(1.35,-19.685)
F.SilkS:
  lines w0.254: -2.19,20.27 -0.96,20.27 -0.96,20.555 0.96,20.555 0.96,19 ; -0.96,-19 -0.96,-20.555 0.96,-20.555 0.96,-20.27 ; -0.96,-17.83 -0.96,-16.46 ; -0.96,-15.29 -0.96,-13.92 ; -0.96,-12.75 -0.96,-11.38 ; -0.96,-10.21 -0.96,-8.84 ; -0.96,-7.67 -0.96,-6.3 ; -0.96,-5.13 -0.96,-3.76 ; -0.96,-2.59 -0.96,-1.22 ; -0.96,-0.05 -0.96,1.32 ; -0.96,2.49 -0.96,3.86 ; -0.96,5.03 -0.96,6.4 ; -0.96,7.57 -0.96,8.94 ; -0.96,10.11 -0.96,11.48 ; -0.96,12.65 -0.96,14.02 ; -0.96,15.19 -0.96,16.56 ; -0.96,17.73 -0.96,19.1 ; 0.96,-19.1 0.96,-17.73 ; 0.96,-16.56 0.96,-15.19 ; 0.96,-14.02 0.96,-12.65 ; 0.96,-11.48 0.96,-10.11 ; 0.96,-8.94 0.96,-7.57 ; 0.96,-6.4 0.96,-5.03 ; 0.96,-3.86 0.96,-2.49 ; 0.96,-1.32 0.96,0.05 ; 0.96,1.22 0.96,2.59 ; 0.96,3.76 0.96,5.13 ; 0.96,6.3 0.96,7.67 ; 0.96,8.84 0.96,10.21 ; 0.96,11.38 0.96,12.75 ; 0.96,13.92 0.96,15.29 ; 0.96,16.46 0.96,17.83
Top Assembly:
  lines w0.254: -0.9,-18.625 -1.75,-18.625 -1.75,-18.205 -0.9,-18.205 ; -0.9,-16.085 -1.75,-16.085 -1.75,-15.665 -0.9,-15.665 ; -0.9,-13.545 -1.75,-13.545 -1.75,-13.125 -0.9,-13.125 ; -0.9,-11.005 -1.75,-11.005 -1.75,-10.585 -0.9,-10.585 ; -0.9,-8.465 -1.75,-8.465 -1.75,-8.045 -0.9,-8.045 ; -0.9,-5.925 -1.75,-5.925 -1.75,-5.505 -0.9,-5.505 ; -0.9,-3.385 -1.75,-3.385 -1.75,-2.965 -0.9,-2.965 ; -0.9,-0.845 -1.75,-0.845 -1.75,-0.425 -0.9,-0.425 ; -0.9,1.695 -1.75,1.695 -1.75,2.115 -0.9,2.115 ; -0.9,4.235 -1.75,4.235 -1.75,4.655 -0.9,4.655 ; -0.9,6.775 -1.75,6.775 -1.75,7.195 -0.9,7.195 ; -0.9,9.315 -1.75,9.315 -1.75,9.735 -0.9,9.735 ; -0.9,11.855 -1.75,11.855 -1.75,12.275 -0.9,12.275 ; -0.9,14.395 -1.75,14.395 -1.75,14.815 -0.9,14.815 ; -0.9,16.935 -1.75,16.935 -1.75,17.355 -0.9,17.355 ; -0.9,19.475 -1.75,19.475 -1.75,19.895 -0.9,19.895 ; 0.9,-19.895 1.75,-19.895 1.75,-19.475 0.9,-19.475 ; 0.9,-17.355 1.75,-17.355 1.75,-16.935 0.9,-16.935 ; 0.9,-14.815 1.75,-14.815 1.75,-14.395 0.9,-14.395 ; 0.9,-12.275 1.75,-12.275 1.75,-11.855 0.9,-11.855 ; 0.9,-9.735 1.75,-9.735 1.75,-9.315 0.9,-9.315 ; 0.9,-7.195 1.75,-7.195 1.75,-6.775 0.9,-6.775 ; 0.9,-4.655 1.75,-4.655 1.75,-4.235 0.9,-4.235 ; 0.9,-2.115 1.75,-2.115 1.75,-1.695 0.9,-1.695 ; 0.9,0.425 1.75,0.425 1.75,0.845 0.9,0.845 ; 0.9,2.965 1.75,2.965 1.75,3.385 0.9,3.385 ; 0.9,5.505 1.75,5.505 1.75,5.925 0.9,5.925 ; 0.9,8.045 1.75,8.045 1.75,8.465 0.9,8.465 ; 0.9,10.585 1.75,10.585 1.75,11.005 0.9,11.005 ; 0.9,13.125 1.75,13.125 1.75,13.545 0.9,13.545 ; 0.9,15.665 1.75,15.665 1.75,16.085 0.9,16.085 ; 0.9,18.205 1.75,18.205 1.75,18.625 0.9,18.625 ; -0.9,-20.495 0.9,-20.495 0.9,20.495 -0.45,20.495 -0.9,20.045 -0.9,-20.495
  text "'.Designator'" at 0.84,-4.047 h1
Top Courtyard:
  lines w0.254: -2.75,-21 2.75,-21 2.75,21 -2.75,21 -2.75,-21
Top Designator:
  text ".Designator" at -7.618,-0.508 h1.52

## PinSocket_1x32_P1.27mm_Vertical_SMD_Pin1Right [mm]
pads (32):
  rect 1.8x0.65 smd: 1(1.35,19.685) 2(-1.35,18.415) 3(1.35,17.145) 4(-1.35,15.875) 5(1.35,14.605) 6(-1.35,13.335) 7(1.35,12.065) 8(-1.35,10.795) 9(1.35,9.525) 10(-1.35,8.255) 11(1.35,6.985) 12(-1.35,5.715) 13(1.35,4.445) 14(-1.35,3.175) 15(1.35,1.905) 16(-1.35,0.635) 17(1.35,-0.635) 18(-1.35,-1.905) 19(1.35,-3.175) 20(-1.35,-4.445) 21(1.35,-5.715) 22(-1.35,-6.985) 23(1.35,-8.255) 24(-1.35,-9.525) 25(1.35,-10.795) 26(-1.35,-12.065) 27(1.35,-13.335) 28(-1.35,-14.605) 29(1.35,-15.875) 30(-1.35,-17.145) 31(1.35,-18.415) 32(-1.35,-19.685)
F.SilkS:
  lines w0.254: -0.96,-20.27 -0.96,-20.555 0.96,-20.555 0.96,-19 ; -0.96,-19.1 -0.96,-17.73 ; -0.96,-16.56 -0.96,-15.19 ; -0.96,-14.02 -0.96,-12.65 ; -0.96,-11.48 -0.96,-10.11 ; -0.96,-8.94 -0.96,-7.57 ; -0.96,-6.4 -0.96,-5.03 ; -0.96,-3.86 -0.96,-2.49 ; -0.96,-1.32 -0.96,0.05 ; -0.96,1.22 -0.96,2.59 ; -0.96,3.76 -0.96,5.13 ; -0.96,6.3 -0.96,7.67 ; -0.96,8.84 -0.96,10.21 ; -0.96,11.38 -0.96,12.75 ; -0.96,13.92 -0.96,15.29 ; -0.96,16.46 -0.96,17.83 ; -0.96,19 -0.96,20.555 0.96,20.555 0.96,20.27 2.19,20.27 ; 0.96,-17.83 0.96,-16.46 ; 0.96,-15.29 0.96,-13.92 ; 0.96,-12.75 0.96,-11.38 ; 0.96,-10.21 0.96,-8.84 ; 0.96,-7.67 0.96,-6.3 ; 0.96,-5.13 0.96,-3.76 ; 0.96,-2.59 0.96,-1.22 ; 0.96,-0.05 0.96,1.32 ; 0.96,2.49 0.96,3.86 ; 0.96,5.03 0.96,6.4 ; 0.96,7.57 0.96,8.94 ; 0.96,10.11 0.96,11.48 ; 0.96,12.65 0.96,14.02 ; 0.96,15.19 0.96,16.56 ; 0.96,17.73 0.96,19.1
Top Assembly:
  lines w0.254: -0.9,-19.895 -1.75,-19.895 -1.75,-19.475 -0.9,-19.475 ; -0.9,-17.355 -1.75,-17.355 -1.75,-16.935 -0.9,-16.935 ; -0.9,-14.815 -1.75,-14.815 -1.75,-14.395 -0.9,-14.395 ; -0.9,-12.275 -1.75,-12.275 -1.75,-11.855 -0.9,-11.855 ; -0.9,-9.735 -1.75,-9.735 -1.75,-9.315 -0.9,-9.315 ; -0.9,-7.195 -1.75,-7.195 -1.75,-6.775 -0.9,-6.775 ; -0.9,-4.655 -1.75,-4.655 -1.75,-4.235 -0.9,-4.235 ; -0.9,-2.115 -1.75,-2.115 -1.75,-1.695 -0.9,-1.695 ; -0.9,0.425 -1.75,0.425 -1.75,0.845 -0.9,0.845 ; -0.9,2.965 -1.75,2.965 -1.75,3.385 -0.9,3.385 ; -0.9,5.505 -1.75,5.505 -1.75,5.925 -0.9,5.925 ; -0.9,8.045 -1.75,8.045 -1.75,8.465 -0.9,8.465 ; -0.9,10.585 -1.75,10.585 -1.75,11.005 -0.9,11.005 ; -0.9,13.125 -1.75,13.125 -1.75,13.545 -0.9,13.545 ; -0.9,15.665 -1.75,15.665 -1.75,16.085 -0.9,16.085 ; -0.9,18.205 -1.75,18.205 -1.75,18.625 -0.9,18.625 ; 0.9,-18.625 1.75,-18.625 1.75,-18.205 0.9,-18.205 ; 0.9,-16.085 1.75,-16.085 1.75,-15.665 0.9,-15.665 ; 0.9,-13.545 1.75,-13.545 1.75,-13.125 0.9,-13.125 ; 0.9,-11.005 1.75,-11.005 1.75,-10.585 0.9,-10.585 ; 0.9,-8.465 1.75,-8.465 1.75,-8.045 0.9,-8.045 ; 0.9,-5.925 1.75,-5.925 1.75,-5.505 0.9,-5.505 ; 0.9,-3.385 1.75,-3.385 1.75,-2.965 0.9,-2.965 ; 0.9,-0.845 1.75,-0.845 1.75,-0.425 0.9,-0.425 ; 0.9,1.695 1.75,1.695 1.75,2.115 0.9,2.115 ; 0.9,4.235 1.75,4.235 1.75,4.655 0.9,4.655 ; 0.9,6.775 1.75,6.775 1.75,7.195 0.9,7.195 ; 0.9,9.315 1.75,9.315 1.75,9.735 0.9,9.735 ; 0.9,11.855 1.75,11.855 1.75,12.275 0.9,12.275 ; 0.9,14.395 1.75,14.395 1.75,14.815 0.9,14.815 ; 0.9,16.935 1.75,16.935 1.75,17.355 0.9,17.355 ; 0.9,19.475 1.75,19.475 1.75,19.895 0.9,19.895 ; -0.9,-20.495 0.9,-20.495 0.9,20.045 0.45,20.495 -0.9,20.495 -0.9,-20.495
  text "'.Designator'" at 0.84,-4.047 h1
Top Courtyard:
  lines w0.254: -2.75,-21 2.75,-21 2.75,21 -2.75,21 -2.75,-21
Top Designator:
  text ".Designator" at -7.618,-0.508 h1.52

## PinSocket_1x33_P1.27mm_Vertical [mm]
pads (33):
  rect 1x1 hole 0.7: 1(0,0)
  round 1 hole 0.7: 2(0,-1.27) 3(0,-2.54) 4(0,-3.81) 5(0,-5.08) 6(0,-6.35) 7(0,-7.62) 8(0,-8.89) 9(0,-10.16) 10(0,-11.43) 11(0,-12.7) 12(0,-13.97) 13(0,-15.24) 14(0,-16.51) 15(0,-17.78) 16(0,-19.05) 17(0,-20.32) 18(0,-21.59) 19(0,-22.86) 20(0,-24.13) 21(0,-25.4) 22(0,-26.67) 23(0,-27.94) 24(0,-29.21) 25(0,-30.48) 26(0,-31.75) 27(0,-33.02) 28(0,-34.29) 29(0,-35.56) 30(0,-36.83) 31(0,-38.1) 32(0,-39.37) 33(0,-40.64)
F.SilkS:
  lines w0.254: -0.76,-0.635 -1.33,-0.635 -1.33,-41.335 -0.308,-41.335 ; 0,0.76 1.33,0.76 1.33,0 ; 0.308,-41.335 1.33,-41.335 1.33,-0.635 0.76,-0.635
Top Assembly:
  lines w0.254: -1.27,-41.275 1.27,-41.275 1.27,0 0.635,0.635 -1.27,0.635 -1.27,-41.275
  text "'.Designator'" at 0.84,-24.367 h1
Top Courtyard:
  lines w0.254: -1.8,-41.8 1.75,-41.8 1.75,1.15 -1.8,1.15 -1.8,-41.8
Top Designator:
  text ".Designator" at -7.643,-20.833 h1.52

## PinSocket_1x33_P1.27mm_Vertical_SMD_Pin1Left [mm]
pads (33):
  rect 1.8x0.65 smd: 1(-1.35,20.32) 2(1.35,19.05) 3(-1.35,17.78) 4(1.35,16.51) 5(-1.35,15.24) 6(1.35,13.97) 7(-1.35,12.7) 8(1.35,11.43) 9(-1.35,10.16) 10(1.35,8.89) 11(-1.35,7.62) 12(1.35,6.35) 13(-1.35,5.08) 14(1.35,3.81) 15(-1.35,2.54) 16(1.35,1.27) 17(-1.35,0) 18(1.35,-1.27) 19(-1.35,-2.54) 20(1.35,-3.81) 21(-1.35,-5.08) 22(1.35,-6.35) 23(-1.35,-7.62) 24(1.35,-8.89) 25(-1.35,-10.16) 26(1.35,-11.43) 27(-1.35,-12.7) 28(1.35,-13.97) 29(-1.35,-15.24) 30(1.35,-16.51) 31(-1.35,-17.78) 32(1.35,-19.05) 33(-1.35,-20.32)
F.SilkS:
  lines w0.254: -2.19,20.905 -0.96,20.905 -0.96,21.19 0.96,21.19 0.96,19.635 ; -0.96,-20.905 -0.96,-21.19 0.96,-21.19 0.96,-19.635 ; -0.96,-19.735 -0.96,-18.365 ; -0.96,-17.195 -0.96,-15.825 ; -0.96,-14.655 -0.96,-13.285 ; -0.96,-12.115 -0.96,-10.745 ; -0.96,-9.575 -0.96,-8.205 ; -0.96,-7.035 -0.96,-5.665 ; -0.96,-4.495 -0.96,-3.125 ; -0.96,-1.955 -0.96,-0.585 ; -0.96,0.585 -0.96,1.955 ; -0.96,3.125 -0.96,4.495 ; -0.96,5.665 -0.96,7.035 ; -0.96,8.205 -0.96,9.575 ; -0.96,10.745 -0.96,12.115 ; -0.96,13.285 -0.96,14.655 ; -0.96,15.825 -0.96,17.195 ; -0.96,18.365 -0.96,19.735 ; 0.96,-18.465 0.96,-17.095 ; 0.96,-15.925 0.96,-14.555 ; 0.96,-13.385 0.96,-12.015 ; 0.96,-10.845 0.96,-9.475 ; 0.96,-8.305 0.96,-6.935 ; 0.96,-5.765 0.96,-4.395 ; 0.96,-3.225 0.96,-1.855 ; 0.96,-0.685 0.96,0.685 ; 0.96,1.855 0.96,3.225 ; 0.96,4.395 0.96,5.765 ; 0.96,6.935 0.96,8.305 ; 0.96,9.475 0.96,10.845 ; 0.96,12.015 0.96,13.385 ; 0.96,14.555 0.96,15.925 ; 0.96,17.095 0.96,18.465
Top Assembly:
  lines w0.254: -0.9,-20.53 -1.75,-20.53 -1.75,-20.11 -0.9,-20.11 ; -0.9,-17.99 -1.75,-17.99 -1.75,-17.57 -0.9,-17.57 ; -0.9,-15.45 -1.75,-15.45 -1.75,-15.03 -0.9,-15.03 ; -0.9,-12.91 -1.75,-12.91 -1.75,-12.49 -0.9,-12.49 ; -0.9,-10.37 -1.75,-10.37 -1.75,-9.95 -0.9,-9.95 ; -0.9,-7.83 -1.75,-7.83 -1.75,-7.41 -0.9,-7.41 ; -0.9,-5.29 -1.75,-5.29 -1.75,-4.87 -0.9,-4.87 ; -0.9,-2.75 -1.75,-2.75 -1.75,-2.33 -0.9,-2.33 ; -0.9,-0.21 -1.75,-0.21 -1.75,0.21 -0.9,0.21 ; -0.9,2.33 -1.75,2.33 -1.75,2.75 -0.9,2.75 ; -0.9,4.87 -1.75,4.87 -1.75,5.29 -0.9,5.29 ; -0.9,7.41 -1.75,7.41 -1.75,7.83 -0.9,7.83 ; -0.9,9.95 -1.75,9.95 -1.75,10.37 -0.9,10.37 ; -0.9,12.49 -1.75,12.49 -1.75,12.91 -0.9,12.91 ; -0.9,15.03 -1.75,15.03 -1.75,15.45 -0.9,15.45 ; -0.9,17.57 -1.75,17.57 -1.75,17.99 -0.9,17.99 ; -0.9,20.11 -1.75,20.11 -1.75,20.53 -0.9,20.53 ; 0.9,-19.26 1.75,-19.26 1.75,-18.84 0.9,-18.84 ; 0.9,-16.72 1.75,-16.72 1.75,-16.3 0.9,-16.3 ; 0.9,-14.18 1.75,-14.18 1.75,-13.76 0.9,-13.76 ; 0.9,-11.64 1.75,-11.64 1.75,-11.22 0.9,-11.22 ; 0.9,-9.1 1.75,-9.1 1.75,-8.68 0.9,-8.68 ; 0.9,-6.56 1.75,-6.56 1.75,-6.14 0.9,-6.14 ; 0.9,-4.02 1.75,-4.02 1.75,-3.6 0.9,-3.6 ; 0.9,-1.48 1.75,-1.48 1.75,-1.06 0.9,-1.06 ; 0.9,1.06 1.75,1.06 1.75,1.48 0.9,1.48 ; 0.9,3.6 1.75,3.6 1.75,4.02 0.9,4.02 ; 0.9,6.14 1.75,6.14 1.75,6.56 0.9,6.56 ; 0.9,8.68 1.75,8.68 1.75,9.1 0.9,9.1 ; 0.9,11.22 1.75,11.22 1.75,11.64 0.9,11.64 ; 0.9,13.76 1.75,13.76 1.75,14.18 0.9,14.18 ; 0.9,16.3 1.75,16.3 1.75,16.72 0.9,16.72 ; 0.9,18.84 1.75,18.84 1.75,19.26 0.9,19.26 ; -0.9,-21.13 0.9,-21.13 0.9,21.13 -0.45,21.13 -0.9,20.68 -0.9,-21.13
  text "'.Designator'" at 0.84,-4.047 h1
Top Courtyard:
  lines w0.254: -2.75,-21.65 2.75,-21.65 2.75,21.65 -2.75,21.65 -2.75,-21.65
Top Designator:
  text ".Designator" at -7.618,-0.508 h1.52